# EAGLE library part MEGA1284P (library atmel_avr_atmega1284p)
Atmel ATmega1284P 8-bit AVR Microcontroller
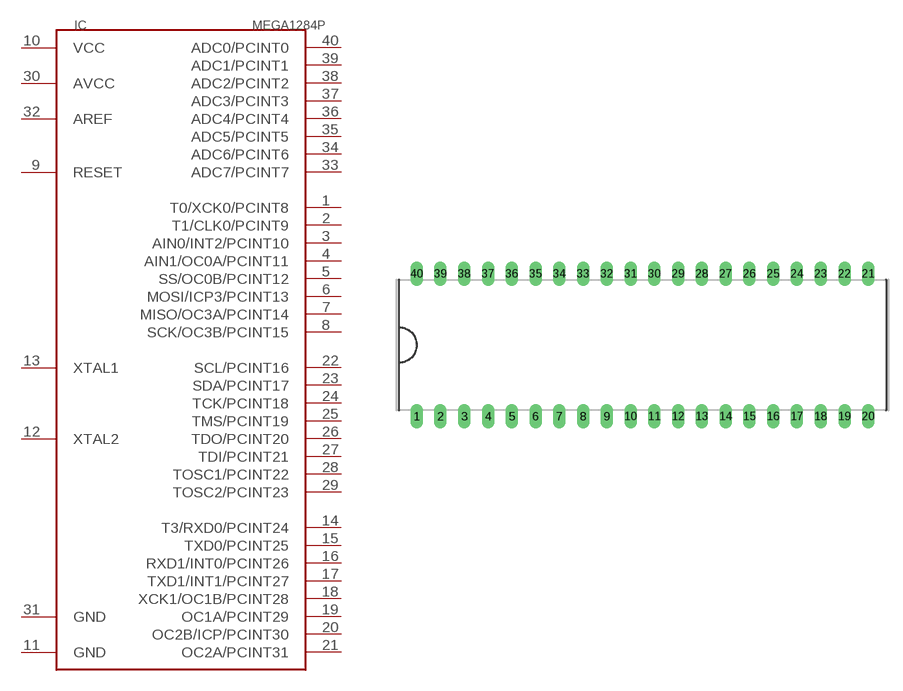
[diagram p0: symbol with the pads of DIL40; footprint DIL40]

Designator prefix IC

## MEGA1284PDIP  [DIL40]
1  T0/XCK0/PCINT8
2  T1/CLK0/PCINT9
3  AIN0/INT2/PCINT10
4  AIN1/OC0A/PCINT11
5  SS/OC0B/PCINT12
6  MOSI/ICP3/PCINT13
7  MISO/OC3A/PCINT14
8  SCK/OC3B/PCINT15
9  RESET
10  VCC
11  GND
12  XTAL2
13  XTAL1
14  T3/RXD0/PCINT24
15  TXD0/PCINT25
16  RXD1/INT0/PCINT26
17  TXD1/INT1/PCINT27
18  XCK1/OC1B/PCINT28
19  OC1A/PCINT29
20  OC2B/ICP/PCINT30
21  OC2A/PCINT31
22  SCL/PCINT16
23  SDA/PCINT17
24  TCK/PCINT18
25  TMS/PCINT19
26  TDO/PCINT20
27  TDI/PCINT21
28  TOSC1/PCINT22
29  TOSC2/PCINT23
30  AVCC
31  GND
32  AREF
33  ADC7/PCINT7
34  ADC6/PCINT6
35  ADC5/PCINT5
36  ADC4/PCINT4
37  ADC3/PCINT3
38  ADC2/PCINT2
39  ADC1/PCINT1
40  ADC0/PCINT0

## Footprint DIL40 (pad centres in mm)
Dual In Line Package
drill 0.813 long: 1 -24.13,-7.62; 2 -21.59,-7.62; 3 -19.05,-7.62; 4 -16.51,-7.62; 5 -13.97,-7.62; 6 -11.43,-7.62; 7 -8.89,-7.62; 8 -6.35,-7.62; 9 -3.81,-7.62; 10 -1.27,-7.62; 11 1.27,-7.62; 12 3.81,-7.62; 13 6.35,-7.62; 14 8.89,-7.62; 15 11.43,-7.62; 16 13.97,-7.62; 17 16.51,-7.62; 18 19.05,-7.62; 19 21.59,-7.62; 20 24.13,-7.62; 21 24.13,7.62; 22 21.59,7.62; 23 19.05,7.62; 24 16.51,7.62; 25 13.97,7.62; 26 11.43,7.62; 27 8.89,7.62; 28 6.35,7.62; 29 3.81,7.62; 30 1.27,7.62; 31 -1.27,7.62; 32 -3.81,7.62; 33 -6.35,7.62; 34 -8.89,7.62; 35 -11.43,7.62; 36 -13.97,7.62; 37 -16.51,7.62; 38 -19.05,7.62; 39 -21.59,7.62; 40 -24.13,7.62